# EAGLE library part 47603-0001 (library 47603-0001)
1.27mm Pitch SIM Card Holder with 2 Detect Pins, 8 Circuits, Push-Push Style, Housing Height 1.90mm, without Pegs, Le...
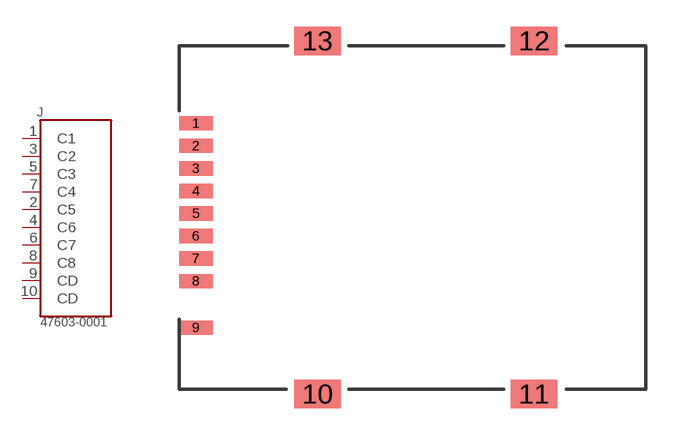
[diagram p0: symbol with the pads of MOLEX_47603-0001; footprint MOLEX_47603-0001]

Designator prefix J

## 47603-0001 (Availability: Unavailable; Description: 1.27mm Pitch SIM Card Holder with 2 Detect Pins, 8 Circuits, Push-Push Style, Housing Height 1.90mm, without Pegs, Le...; MF: Molex; MP: 47603-0001; Package: None; Price: None)  [MOLEX_47603-0001]
1  C1  pas
2  C5  pas
3  C2  pas
4  C6  pas
5  C3  pas
6  C7  pas
7  C4  pas
8  C8  pas
9  CD  pas
10  CD  pas

## Footprint MOLEX_47603-0001 (pad centres in mm)
smd 1.9 x 0.8: 1 -12.2,5.3; 2 -12.2,4.03; 3 -12.2,2.76; 4 -12.2,1.49; 5 -12.2,0.22; 6 -12.2,-1.05; 7 -12.2,-2.32; 8 -12.2,-3.59; 9 -12.2,-6.21
smd 2.6 x 1.6: 10 -5.35,-9.95; 11 6.85,-9.95; 12 6.85,9.95; 13 -5.35,9.95